# Altium footprint library MyLib.PcbLib: 96 footprints (part 3 of 6)
Each footprint in its own frame and in the unit in brackets; x right, y up, seen from the top. Pads: shape width x height; smd on the part's side, far side on the other; paste and mask are expansions set on the pad; w line width, h text height; cw(c..) or ccw(c..) is an arc to the next point about the centre after c.
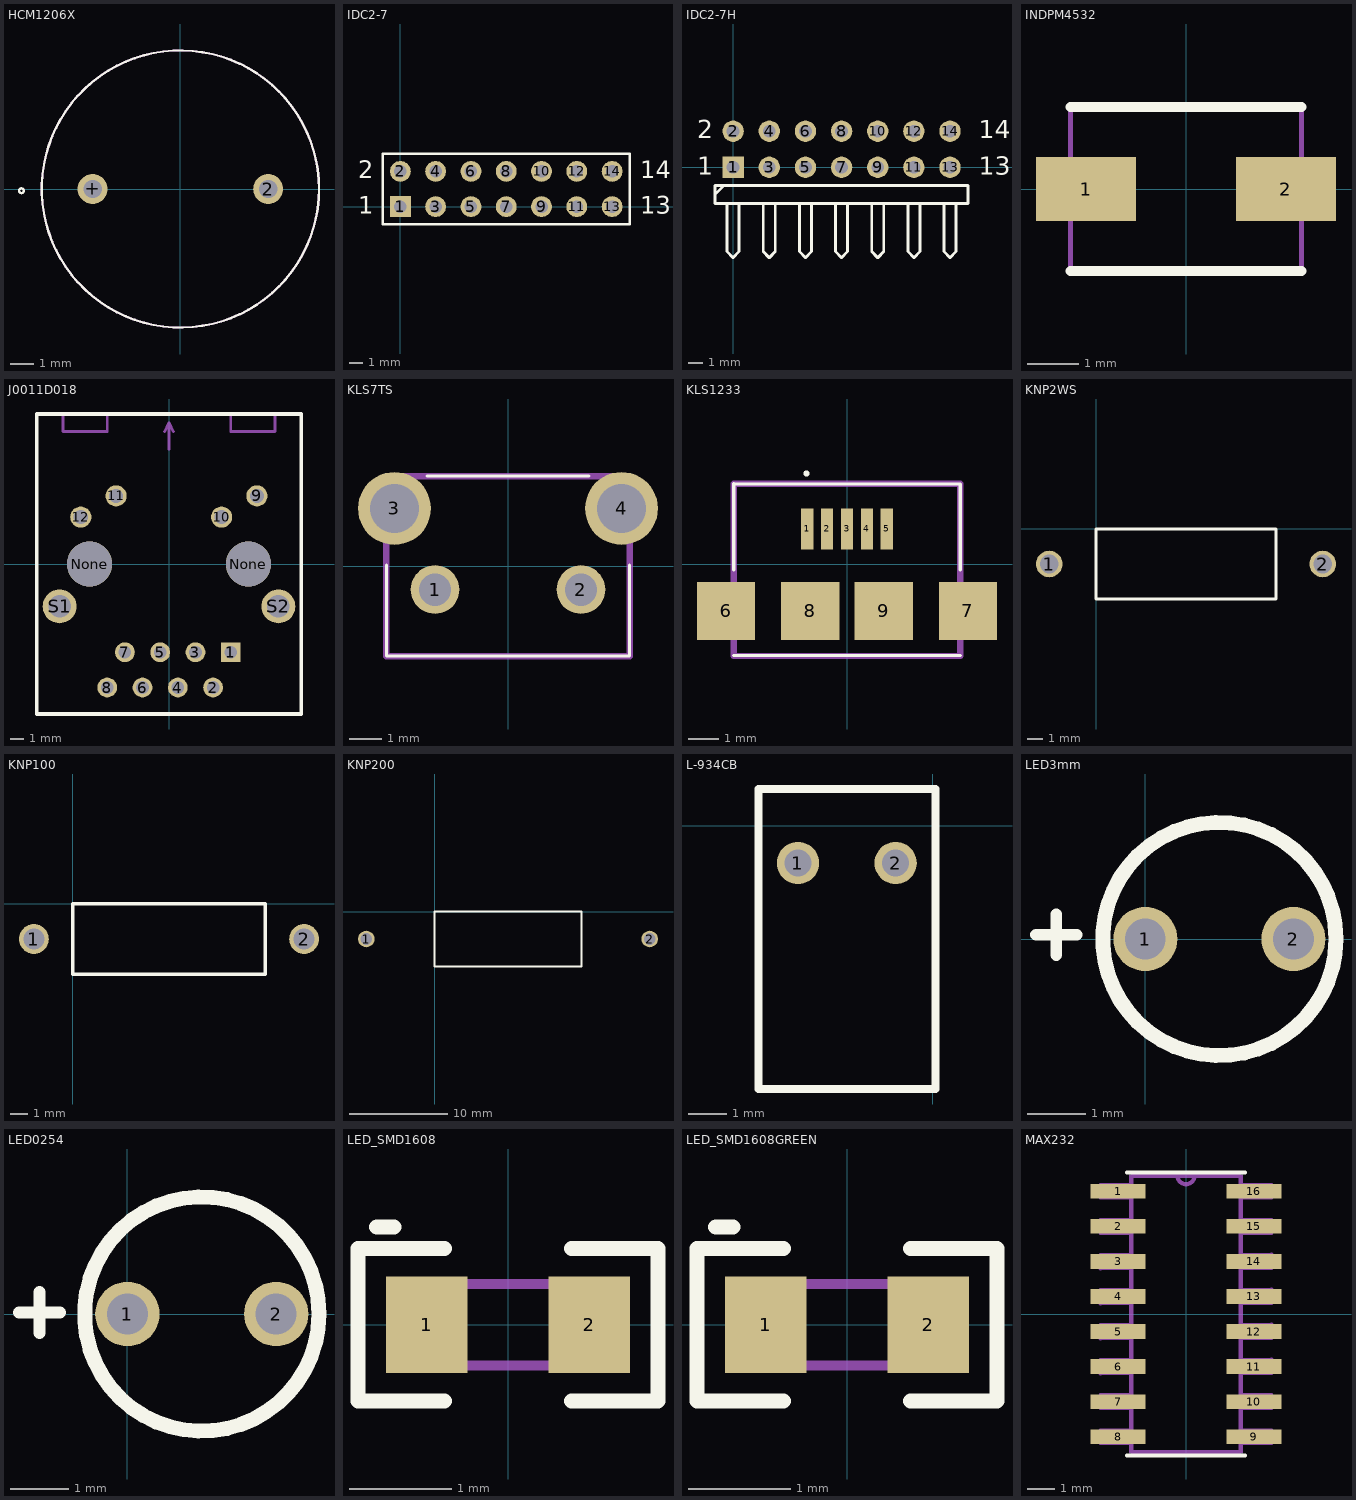
[diagram p2: the footprints below, top view; thin cyan lines are the x and y axes]

## HCM1206X [mm]
pads (2):
  round 1.3 hole 0.8: 2(3.8,0) +(-3.8,0)
Top Overlay:
  circle w0.1: c0,0 r6
  circle w0.1: c-6.884,-0.075 r0.102
Mechanical 13:
  circle w0.1: c0,0 r6
3D body "User Library-HCM1206X.step": height 9.5, standoff -6.5, extent -6,-6 6,6

## IDC2-7 [mm]
pads (14):
  rect 1.5x1.5 hole 0.9: 1(0,0)
  round 1.5 hole 0.9: 2(0,2.54) 3(2.54,0) 4(2.54,2.54) 5(5.08,0) 6(5.08,2.54) 7(7.62,0) 8(7.62,2.54) 9(10.16,0) 10(10.16,2.54) 11(12.7,0) 12(12.7,2.54) 13(15.24,0) 14(15.24,2.54)
Top Overlay:
  lines w0.2: -1.27,-1.27 16.51,-1.27 16.51,3.81 -1.27,3.81 -1.27,-1.27
  text "13" at 17.272,-0.508 h1.27
  text "14" at 17.272,2.032 h1.27
  text "1" at -3.048,-0.508 h1.27
  text "2" at -3.048,2.032 h1.27
3D body "User Library-DS1013-14S (IDC-14MS CONNFLY).step": height 9, standoff -3.6, extent -5.17,-3.23 20.41,5.67

## IDC2-7H [mm]
pads (14):
  rect 1.5x1.5 hole 0.9: 1(0,0)
  round 1.5 hole 0.9: 2(0,2.54) 3(2.54,0) 4(2.54,2.54) 5(5.08,0) 6(5.08,2.54) 7(7.62,0) 8(7.62,2.54) 9(10.16,0) 10(10.16,2.54) 11(12.7,0) 12(12.7,2.54) 13(15.24,0) 14(15.24,2.54)
Top Overlay:
  lines w0.2: -1.27,-1.905 -0.635,-1.27 ; -0.423,-2.54 -0.423,-5.927 0,-6.35 0.423,-5.927 0.423,-2.54 ; 2.117,-2.54 2.117,-5.927 2.54,-6.35 2.963,-5.927 2.963,-2.54 ; 4.657,-2.54 4.657,-5.927 5.08,-6.35 5.503,-5.927 5.503,-2.54 ; 7.197,-2.54 7.197,-5.927 7.62,-6.35 8.043,-5.927 8.043,-2.54 ; 9.737,-2.54 9.737,-5.927 10.16,-6.35 10.583,-5.927 10.583,-2.54 ; 12.277,-2.54 12.277,-5.927 12.7,-6.35 13.123,-5.927 13.123,-2.54 ; 14.817,-2.54 14.817,-5.927 15.24,-6.35 15.663,-5.927 15.663,-2.54 ; -1.27,-2.54 -1.27,-1.27 16.51,-1.27 16.51,-2.54 -1.27,-2.54
  text "2" at -2.54,2.032 h1.27
  text "1" at -2.54,-0.508 h1.27
  text "13" at 17.272,-0.508 h1.27
  text "14" at 17.272,2.032 h1.27
3D body "User Library-DS1013-14R (IDC-14R CONNFLY).step": height 8.9, standoff -3, extent -5.19,-11.125 20.39,2.895

## INDPM4532 [mm]
pads (2):
  rect 1.95x1.25 smd: 1(-1.95,0) 2(1.95,0)
Top Overlay:
  lines w0.2: -2.25,-1.6 2.25,-1.6 ; -2.25,1.6 2.25,1.6
Mechanical 15:
  lines w0.1: -2.25,-1.6 2.25,-1.6 2.25,1.6 -2.25,1.6 -2.25,-1.6
3D body "CM453232-471KL.stp": height 3.4, standoff 0, extent -2.25,-1.6 2.25,1.6

## J0011D018 [mil]
pads (16):
  rect 56x56 hole 36: 1(175,-250)
  round 56 hole 36: 2(125,-350) 3(75,-250) 4(25,-350) 5(-25,-250) 6(-75,-350) 7(-125,-250) 8(-175,-350)
  round 60 hole 40: 9(249,193) 10(149,133) 11(-150,193) 12(-250,133)
  round 128 hole 128 unplated: None(-225,0) None(225,0)
  round 96 hole 64: S1(-310,-120) S2(310,-120)
Top Overlay:
  lines w10: -375,-425 -375,425 375,425 375,-425 -375,-425
Mechanical 1:
  lines w8: -300,425 -300,375 -175,375 -175,425 ; -12.5,375 0,400 ; 0,325 0,400 ; 12.5,375 0,400 ; 175,425 175,375 300,375 300,425
  text "FRONT" at -62.6,253.09 h73.82
  text "RIGHT" at -287.74,377.98 h73.82
  text "LEFT" at 200.44,378.5 h73.82
  text "2" at 150.12,-335.11 h73.82
  text "4" at 50.13,-335.66 h73.82
  text "6" at -50.12,-335.65 h73.82
  text "8" at -150.33,-335.56 h73.82
  text "7" at -100.16,-235.21 h73.82
  text "5" at 0,-235.2 h73.82
  text "3" at 100.29,-235.51 h73.82
  text "1" at 200.43,-235.32 h73.82
  text "12" at -200.3,90.31 h73.82
  text "11" at -100.29,140.59 h73.82
  text "10" at 200.37,90.34 h73.82
  text "9" at 300.71,140.51 h73.82
3D body "Abracon ARJC02-111008B.STEP": height 632.68, standoff -145.67, extent -404.41,-405.55 409.45,425.2

## KLS7TS [mm]
pads (4):
  round 1.5 hole 1: 1(-2.25,-0.725) 2(2.25,-0.725)
  round 2.25 hole 1.5: 3(-3.5,1.775) 4(3.5,1.775)
Top Overlay:
  lines w0.1: -3.75,0.025 -3.75,-2.775 3.75,-2.775 3.75,0.025 ; -2.5,2.775 2.5,2.775
Mechanical 15:
  lines w0.2: -3.75,-2.775 -3.75,2.775 3.75,2.775 3.75,-2.775 -3.75,-2.775

## KLS1233 [mm]
pads (9):
  rect 0.4x1.35 smd: 1(-1.3,1.145) 2(-0.65,1.145) 3(0,1.145) 4(0.65,1.145) 5(1.3,1.145)
  rect 1.9x1.9 smd: 6(-3.95,-1.53) 7(3.95,-1.53) 8(-1.2,-1.53) 9(1.2,-1.53)
Top Overlay:
  lines w0.1: -3.7,-2.993 3.7,-2.993 ; -3.7,-0.193 -3.7,2.622 3.7,2.607 3.7,-0.193 ; -1.324,2.907 cw(c-1.324,2.957) -1.324,3.008 cw(c-1.324,2.957) -1.324,2.907
Mechanical 15:
  lines w0.2: -3.7,-3.008 3.7,-3.008 3.7,2.622 -3.7,2.622 -3.7,-3.008

## KNP2WS [mm]
pads (2):
  round 1.7 hole 1.2: 1(-3,-2.25) 2(14.5,-2.25)
Top Overlay:
  lines w0.2: 0,-4.5 0,0 11.5,0 11.5,-4.5 0,-4.5
3D body "User Library-Resistor_Carvao_2W.STEP": height 5, standoff -3, extent -2.265,-4.275 13.775,-0.275

## KNP100 [mm]
pads (2):
  round 1.7 hole 1.2: 1(-2.2,-2) 2(13.2,-2)
Top Overlay:
  lines w0.2: 0,-4 11,-4 11,0 0,0 0,-4
3D body "User Library-Resistor_Carvao_2W.STEP": height 5, standoff -3, extent -2.565,-4.025 13.475,-0.025

## KNP200 [mm]
pads (2):
  round 1.7 hole 1.2: 1(-7,-2.8) 2(22,-2.8)
Top Overlay:
  lines w0.2: 0,-5.6 0,0 15,0 15,-5.6 0,-5.6

## L-934CB [mm] "LED 3mm"
pads (2):
  round 1.1 hole 0.7: 1(-3.5,-0.975) 2(-0.96,-0.975)
Top Overlay:
  lines w0.2: 0.075,0.95 0.075,-6.85 -4.525,-6.85 -4.525,0.95 0.075,0.95 ; 0.075,0.95 0.075,0.95
3D body "User Library-LED_L-934CB.STEP": height 7.3, standoff -3.5, extent -4.525,-6.85 0.075,0.95

## LED3mm [mm]
pads (2):
  round 1.1 hole 0.7: 1(0,0) 2(2.54,0)
Top Overlay:
  circle w0.254: c1.27,0 r2
  lines w0.2: -1.875,0.075 -1.175,0.075 ; -1.525,-0.275 -1.525,0.425
3D body "User Library-LA 3366_bc.STEP": height 4.6, standoff -3, extent -0.425,-7.25 2.975,0.3

## LED0254 [mm] "3mm diamter LED"
height 25.4
pads (2):
  round 1.1 hole 0.7: 1(0,0) 2(2.54,0)
Top Overlay:
  circle w0.254: c1.27,0 r2
  lines w0.2: -1.85,0.025 -1.15,0.025 ; -1.5,-0.325 -1.5,0.375
3D body "3mm_LED.stp": height 12.06, standoff -5.24, extent -0.497,-1.6 3.147,2.043

## LED_SMD1608 [mm]
pads (2):
  rect 0.8x0.95 smd: 1(-0.8,0) 2(0.8,0)
Top Overlay:
  lines w0.15: -1.29,0.96 -1.12,0.96 ; -0.625,-0.75 -1.475,-0.75 -1.475,0.75 -0.625,0.75 ; 0.625,-0.75 1.475,-0.75 1.475,0.75 0.625,0.75
Mechanical 15:
  lines w0.1: -0.8,0.133 -0.533,0.4 ; -0.8,-0.4 0.8,-0.4 0.8,0.4 -0.8,0.4 -0.8,-0.4
3D body "User Library-LED_LTST-C190TBKT.STEP": height 0.9, standoff 0, extent -0.85,-0.45 0.85,0.45

## LED_SMD1608GREEN [mm]
pads (2):
  rect 0.8x0.95 smd: 1(-0.8,0) 2(0.8,0)
Top Overlay:
  lines w0.15: -1.29,0.96 -1.12,0.96 ; -0.625,-0.75 -1.475,-0.75 -1.475,0.75 -0.625,0.75 ; 0.625,-0.75 1.475,-0.75 1.475,0.75 0.625,0.75
Mechanical 15:
  lines w0.1: -0.8,0.133 -0.533,0.4 ; -0.8,-0.4 0.8,-0.4 0.8,0.4 -0.8,0.4 -0.8,-0.4
3D body "User Library-LED_LTST-C190GKT.STEP": height 0.9, standoff 0, extent -0.85,-0.45 0.85,0.45

## MAX232 [mil]
pads (16):
  rect 78x21 smd: 1(-97,175) 2(-97,125) 3(-97,75) 4(-97,25) 5(-97,-25) 6(-97,-75) 7(-97,-125) 8(-97,-175) 9(97,-175) 10(97,-125) 11(97,-75) 12(97,-25) 13(97,25) 14(97,75) 15(97,125) 16(97,175)
Top Overlay:
  lines w6: -84,-202 84,-202 ; -84,202 84,202
Mechanical 1:
  lines w6: -12,197 ccw(c0,197) 12,197 ; -12,197 -78,197 -78,-197 78,-197 78,197 12,197 ; -12,197 12,197 ; -122,-184 -78,-184 -78,-166 -122,-166 -122,-184 ; -122,-134 -78,-134 -78,-116 -122,-116 -122,-134 ; -122,-85 -78,-84 -78,-66 -122,-66 -122,-85 ; -122,-35 -78,-34 -78,-16 -122,-16 -122,-35 ; -122,15 -78,16 -78,34 -122,34 -122,15 ; -122,65 -78,66 -78,84 -122,84 -122,65 ; -122,116 -78,116 -78,134 -122,134 -122,116 ; -122,166 -78,166 -78,184 -122,184 -122,166 ; 78,-184 122,-184 122,-166 78,-166 78,-184 ; 78,-134 122,-134 122,-116 78,-116 78,-134 ; 78,-84 122,-84 122,-65 78,-66 78,-84 ; 78,-34 122,-34 122,-15 78,-16 78,-34 ; 78,16 122,16 122,35 78,34 78,16 ; 78,66 122,66 122,85 78,84 78,66 ; 78,116 122,116 122,134 78,134 78,116 ; 78,166 122,166 122,184 78,184 78,166